# Altium footprint library Conn_Amphenol_132289_eec_0.PcbLib: 1 footprints
Each footprint in its own frame and in the unit in brackets; x right, y up, seen from the top. Pads: shape width x height; smd on the part's side, far side on the other; paste and mask are expansions set on the pad; w line width, h text height; cw(c..) or ccw(c..) is an arc to the next point about the centre after c.
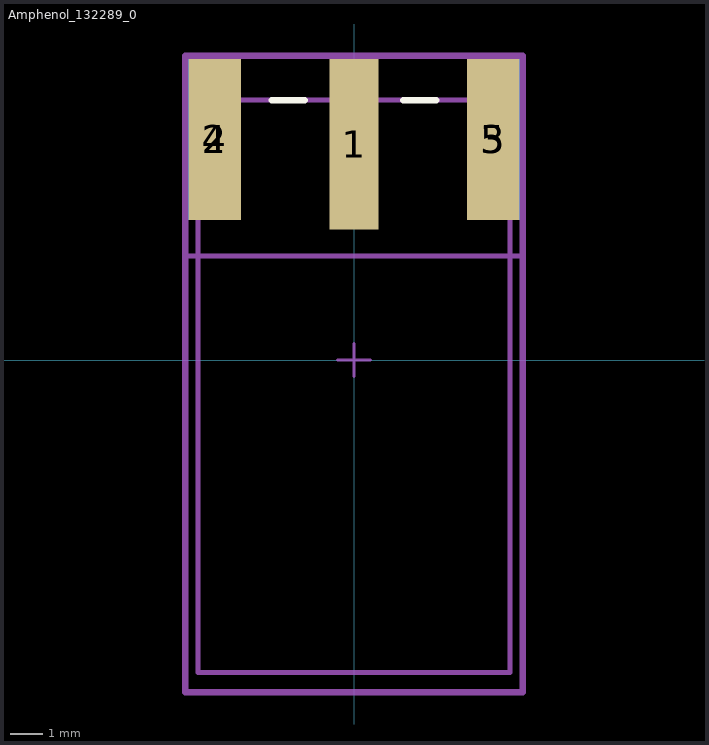
[diagram p0: the footprint, top view; thin cyan lines are the x and y axes]

## Amphenol_132289_0 [mm]
pads (5):
  rect 1.5x5.2 smd paste+0 mask+0: 1(0,6.575)
  rect 1.6x4.9 smd paste+0 mask+0: 2(-4.25,6.725) 3(4.25,6.725)
  rect 1.6x4.9 smd far side paste+0 mask+0: 4(-4.25,6.725) 5(4.25,6.725)
Top Overlay:
  lines w0.2: -2.5,7.925 -1.5,7.925 ; 1.5,7.925 2.5,7.925
Mechanical 10:
  lines w0.2: -5.15,-10.125 5.15,-10.125 5.15,9.275 -5.15,9.275 -5.15,-10.125
  text ".Designator" at 0,-0.425 h1
Mechanical 12:
  lines w0.15: -5.15,3.175 5.15,3.175 ; -4.76,-9.525 4.76,-9.525 4.76,7.925 -4.76,7.925 -4.76,-9.525
Mechanical 15:
  lines w0.1: -0.5,0 0.5,0 ; 0,-0.5 0,0.5
  lines w0.2: -5.15,-10.125 5.15,-10.125 5.15,9.275 -5.15,9.275 -5.15,-10.125
3D body "Conn_Amphenol_132289.STEP": height 5.62, standoff -4.58, extent -5.1,-8.926 5.1,8.524